# Altium footprint library Christmas-2024_TSO-PCB.PcbLib: 27 footprints (part 2 of 2)
Each footprint in its own frame and in the unit in brackets; x right, y up, seen from the top. Pads: shape width x height; smd on the part's side, far side on the other; paste and mask are expansions set on the pad; w line width, h text height; cw(c..) or ccw(c..) is an arc to the next point about the centre after c.
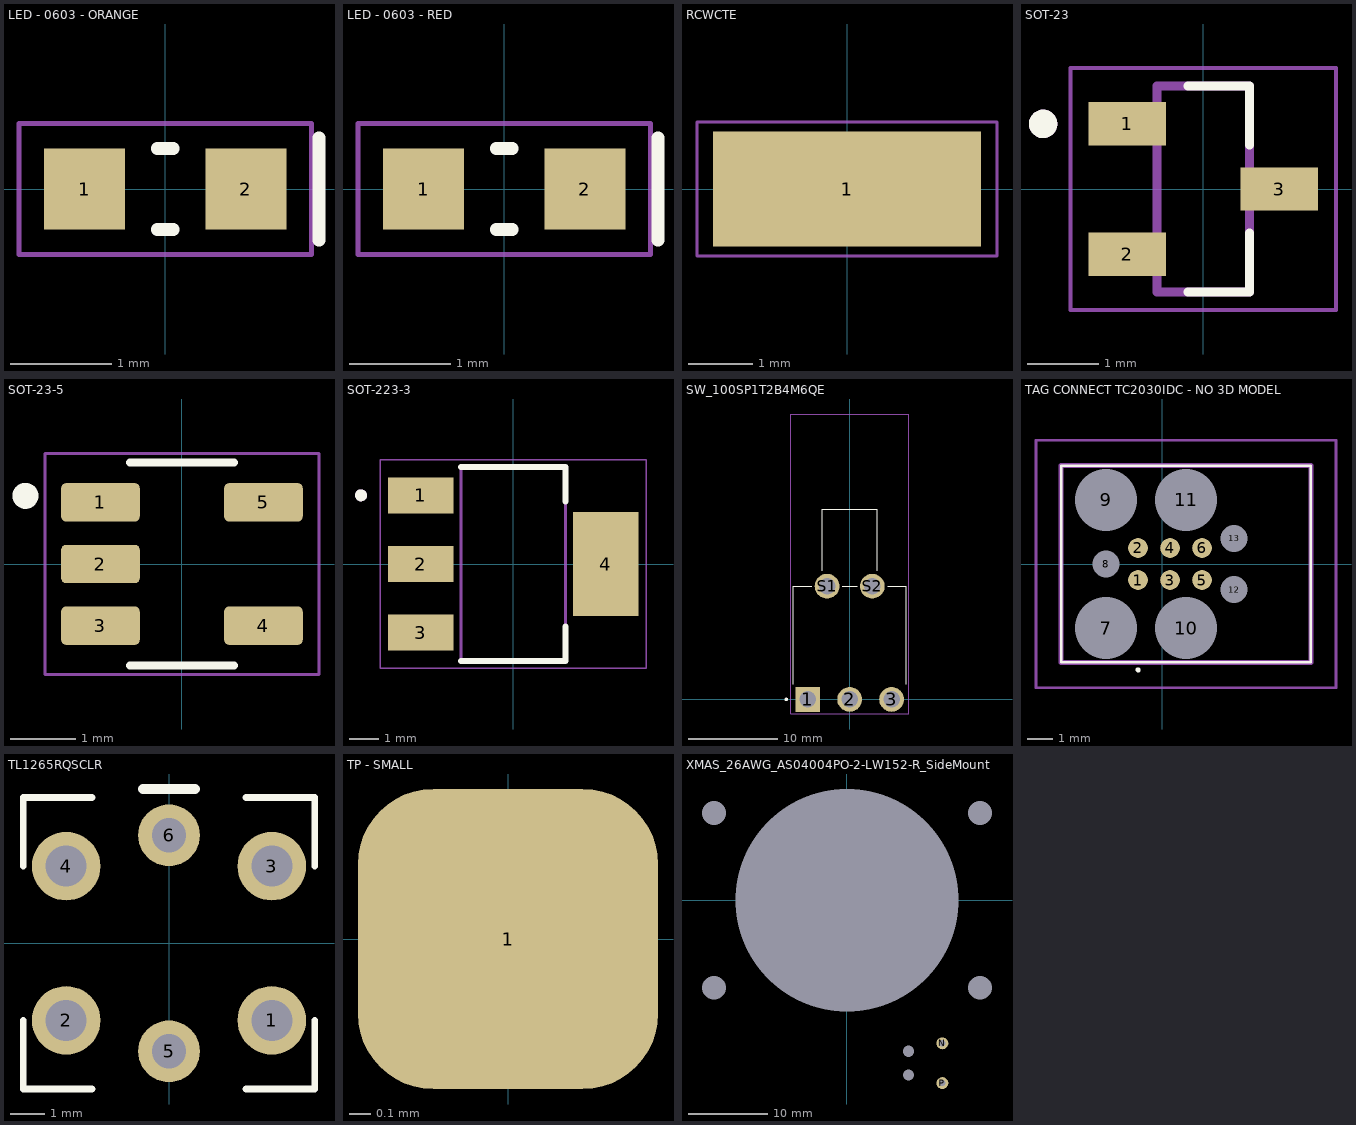
[diagram p1: the footprints below, top view; thin cyan lines are the x and y axes]

## LED - 0603 - ORANGE [mm]
pads (2):
  rect 0.8x0.8 smd: 1(-0.8,0) 2(0.8,0)
Top Overlay:
  lines w0.127: -0.08,-0.4 0.08,-0.4 ; -0.08,0.4 0.08,0.4 ; 1.524,-0.508 1.524,0.508
Mechanical 15:
  lines w0.05: -1.45,-0.65 1.45,-0.65 1.45,0.65 -1.45,0.65 -1.45,-0.65
3D body "LED-0603-ORANGE.step": height 0.7, standoff 0, extent -0.8,-0.4 0.8,0.4

## LED - 0603 - RED [mm]
pads (2):
  rect 0.8x0.8 smd: 1(-0.8,0) 2(0.8,0)
Top Overlay:
  lines w0.127: -0.08,-0.4 0.08,-0.4 ; -0.08,0.4 0.08,0.4 ; 1.524,-0.508 1.524,0.508
Mechanical 15:
  lines w0.05: -1.45,-0.65 1.45,-0.65 1.45,0.65 -1.45,0.65 -1.45,-0.65
3D body "LED-0603-RED.step": height 0.7, standoff 0, extent -0.8,-0.4 0.8,0.4

## RCWCTE [mm]
height 2
pads (1):
  rect 4.2x1.8 smd: 1(0,0)
Mechanical 13:
  lines w0.127: -1.6,-0.8 -1.6,0.8 1.6,0.8 1.6,-0.8 -1.6,-0.8
Mechanical 15:
  lines w0.05: -2.35,-1.05 -2.35,1.05 2.35,1.05 2.35,-1.05 -2.35,-1.05
3D body "step_temp.STEP": height 2.01, standoff 0, extent -1.6,-0.8 1.6,0.8

## SOT-23 [mm]
pads (3):
  rect 1.09x0.61 smd: 1(-1.07,0.915) 2(-1.07,-0.915) 3(1.07,0)
Top Overlay:
  circle w0.2: c-2.25,0.915 r0.1
  lines w0.127: -0.212,-1.45 0.65,-1.45 0.65,-0.619 ; -0.212,1.45 0.65,1.45 0.65,0.619
Mechanical 13:
  circle w0.2: c-2.25,0.915 r0.1
  lines w0.127: -0.65,-1.45 -0.65,1.45 0.65,1.45 0.65,-1.45 -0.65,-1.45
Mechanical 15:
  lines w0.05: -1.865,-1.7 -1.865,1.7 1.865,1.7 1.865,-1.7 -1.865,-1.7
3D body "step_temp.STEP": height 1.2, standoff 0, extent -1.2,-1.45 1.2,1.45

## SOT-23-5 [mm]
pads (5):
  rrect25% 1.21x0.59 smd: 1(-1.255,0.95) 2(-1.255,0) 3(-1.255,-0.95) 4(1.255,-0.95) 5(1.255,0.95)
Top Overlay:
  circle w0.2: c-2.41,1.05 r0.1
  lines w0.127: -0.8,-1.565 0.8,-1.565 ; -0.8,1.565 0.8,1.565
Mechanical 15:
  lines w0.05: -2.11,-1.7 2.11,-1.7 2.11,1.7 -2.11,1.7 -2.11,-1.7
3D body "step_temp.STEP": height 1.43, standoff -0.02, extent -1.4,-1.45 1.4,1.45

## SOT-223-3 [mm]
pads (4):
  rect 2.2x1.2 smd: 1(-3.1,2.3) 2(-3.1,0) 3(-3.1,-2.3)
  rect 2.2x3.5 smd: 4(3.1,0)
Top Overlay:
  circle w0.2: c-5.1,2.3 r0.1
  lines w0.2: -1.75,-3.25 1.75,-3.25 1.75,-2.1 ; -1.75,3.25 1.75,3.25 1.75,2.1
Mechanical 13:
  circle w0.2: c-5.1,2.3 r0.1
  lines w0.1: -1.75,-3.25 -1.75,3.25 1.75,3.25 1.75,-3.25 -1.75,-3.25
Mechanical 15:
  lines w0.05: -4.45,-3.5 4.45,-3.5 4.45,3.5 -4.45,3.5 -4.45,-3.5
3D body "LM3940IMPX-3.3_NOPB.step": height 1.8, standoff 0, extent -3.499,-3.3 3.499,3.2

## SW_100SP1T2B4M6QE [mm]
height 6.86
pads (5):
  rect 2.775x2.775 / inner round 2.775 / far side rect 2.775x2.775 hole 1.85: 1(-4.7,0)
  round 2.775 hole 1.85: 2(0,0) 3(4.7,0) S1(-2.54,12.7) S2(2.54,12.7)
Top Overlay:
  circle w0.2: c-7.1,0 r0.1
  lines w0.127: -6.35,1.707 -6.35,12.7 -4.247,12.7 ; -3.085,14.407 -3.085,21.35 3.085,21.35 3.085,14.407 ; -0.833,12.7 0.833,12.7 ; 4.247,12.7 6.35,12.7 6.35,1.707
Mechanical 15:
  lines w0.05: -6.6,-1.637 -6.6,32.01 6.6,32.01 6.6,-1.637 -6.6,-1.637
3D body "100SP1T2B4M6QE.step": height 6.86, standoff -3.17, extent -6.35,-0.635 6.35,26.515

## TAG CONNECT TC2030IDC - NO 3D MODEL [mil]
pads (13):
  round 30.83 smd: 1(-37.52,-25) 2(-37.52,25) 3(12.48,-25) 4(12.48,25) 5(62.52,-25) 6(62.52,25)
  round 48.25 hole 96.5 unplated: 7(-87.52,-100) 9(-87.52,100) 10(37.48,-100) 11(37.48,100)
  round 21 hole 42.01 unplated: 8(-87.52,0) 12(112.48,-40) 13(112.48,40)
Top Overlay:
  lines w3.94: -157.48,-153.54 -157.48,153.54 232.28,153.54 232.28,-153.54 -157.48,-153.54 ; -39.37,-165.35 ccw(c-37.4,-165.35) -35.43,-165.35 ccw(c-37.4,-165.35) -39.37,-165.35
Mechanical 13:
  lines w7.87: -157.48,-153.54 -157.48,153.54 232.28,153.54 232.28,-153.54 -157.48,-153.54
Mechanical 15:
  lines w3.94: -196.85,-192.91 -196.85,192.91 271.65,192.91 271.65,-192.91 -196.85,-192.91

## TL1265RQSCLR [mm]
pads (6):
  round 2 hole 1.2: 1(3,-2.25) 2(-3,-2.25) 3(3,2.25) 4(-3,2.25)
  round 1.8 hole 1: 5(0,-3.15) 6(0,3.15)
Top Overlay:
  lines w0.2: -4.25,-2.25 -4.25,-2.75 -4.25,-4.25 -2.75,-4.25 -2.25,-4.25 ; -4.25,2.25 -4.25,2.75 -4.25,4.25 -2.75,4.25 -2.25,4.25 ; 2.25,-4.25 2.75,-4.25 4.25,-4.25 4.25,-2.75 4.25,-2.25 ; 2.25,4.25 2.75,4.25 4.25,4.25 4.25,2.75 4.25,2.25
  lines w0.3: -0.75,4.5 0.75,4.5
3D body "TL1265xQSxxx.stp": height 11.6, standoff -5, extent -3.975,-4.05 4.025,3.95

## TP - SMALL [mm]
pads (1):
  rrect50% 1.4x1.4 smd: 1(0,0)

## XMAS_26AWG_AS04004PO-2-LW152-R_SideMount [mm]
pads (9):
  round 0 hole 3 unplated: 1(-16.75,-11) 1(-16.75,11) 1(16.75,-11) 1(16.75,11)
  round 0 hole 28 unplated: 1(0,0)
  round 0 hole 1.4 unplated: H(7.75,-22) H(7.75,-19)
  round 1.5 hole 0.8: N(12,-18) P(12,-23)
3D body "speaker model v5.step": height 16.23, standoff -3.79, extent -20,-23.519 42.401,14.25